# EAGLE library part CY7C65213 (library FlashPCB_ICs)
CY7C65213 - USB Bridge, USB to UART USB 2.0 UART Interface Technical Specifications: Standards: USB 2.0 Voltage - Supply (Vcc/Vdd): 1.71V ~ 5.5V Operating Temperature: -40°C ~ 85°C Component Search: CY7C65213 <[FLASHPCB URL]> Datasheet: CY7C65213 <https://rocelec.widen.net/view/pdf/lbnf5iposc/CYPR-S-A0004572493-1.pdf?t.download=true&u=5oefqw>
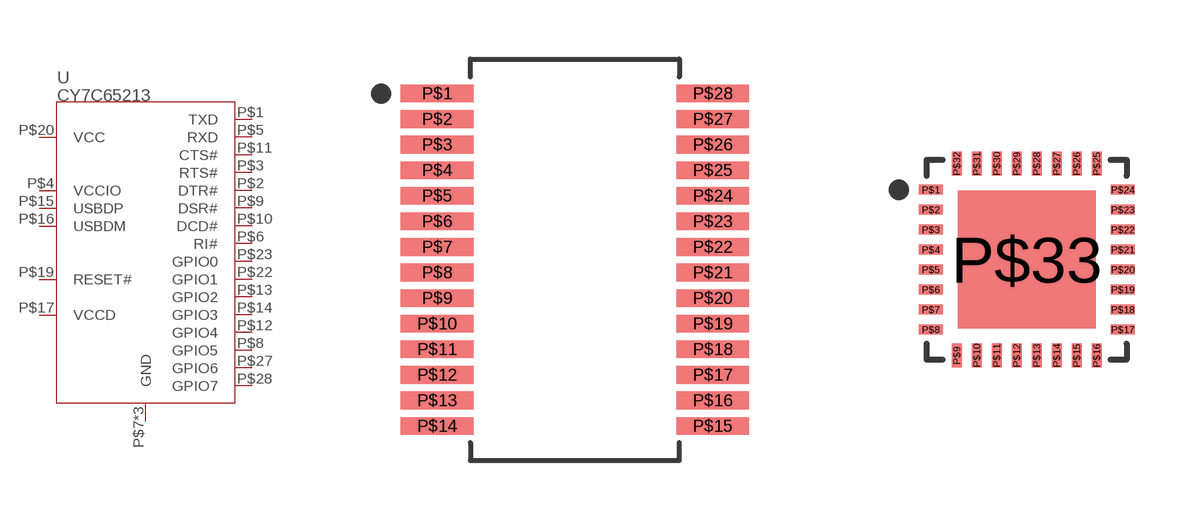
[diagram p35: symbol with the pads of 28-SSOP; footprints 28-SSOP, 32-QFN(5X5)-EXPOSED-PAD]

Designator prefix U

## CY7C6521328PVXI  [28-SSOP]
P$1  TXD
P$2  DTR#
P$3  RTS#
P$4  VCCIO
P$5  RXD
P$6  RI#
P$7  GND
P$8  GPIO5
P$9  DSR#
P$10  DCD#
P$11  CTS#
P$12  GPIO4
P$13  GPIO2
P$14  GPIO3
P$15  USBDP
P$16  USBDM
P$17  VCCD
P$18  GND
P$19  RESET#
P$20  VCC
P$21  GND
P$22  GPIO1
P$23  GPIO0
P$27  GPIO6
P$28  GPIO7

## CY7C6521332LTXI  [32-QFN(5X5)-EXPOSED-PAD]
P$1  VCCIO
P$2  RXD
P$3  RI#
P$4  GND
P$5  GPIO5
P$6  DSR#
P$7  DCD#
P$8  CTS#
P$9  GPIO4
P$10  GPIO2
P$11  GPIO3
P$12  GPIO6
P$13  GPIO7
P$14  USBDP
P$15  USBDM
P$16  VCCD
P$17  GND
P$18  RESET#
P$19  VCC
P$20  GND
P$21  GPIO1
P$22  GPIO0
P$24  GND
P$30  TXD
P$31  DTR#
P$32  RTS#

## Footprint 28-SSOP (pad centres in mm)
smd 1.85 x 0.45: P$1 -3.5,4.225; P$2 -3.5,3.575; P$3 -3.5,2.925; P$4 -3.5,2.275; P$5 -3.5,1.625; P$6 -3.5,0.975; P$7 -3.5,0.325; P$8 -3.5,-0.325; P$9 -3.5,-0.975; P$10 -3.5,-1.625; P$11 -3.5,-2.275; P$12 -3.5,-2.925; P$13 -3.5,-3.575; P$14 -3.5,-4.225; P$15 3.5,-4.225; P$16 3.5,-3.575; P$17 3.5,-2.925; P$18 3.5,-2.275; P$19 3.5,-1.625; P$20 3.5,-0.975; P$21 3.5,-0.325; P$22 3.5,0.325; P$23 3.5,0.975; P$24 3.5,1.625; P$25 3.5,2.275; P$26 3.5,2.925; P$27 3.5,3.575; P$28 3.5,4.225

## Footprint 32-QFN(5X5)-EXPOSED-PAD (pad centres in mm)
smd 0.6 x 0.25: P$1 -2.4,1.75; P$2 -2.4,1.25; P$3 -2.4,0.75; P$4 -2.4,0.25; P$5 -2.4,-0.25; P$6 -2.4,-0.75; P$7 -2.4,-1.25; P$8 -2.4,-1.75; P$17 2.4,-1.75; P$18 2.4,-1.25; P$19 2.4,-0.75; P$20 2.4,-0.25; P$21 2.4,0.25; P$22 2.4,0.75; P$23 2.4,1.25; P$24 2.4,1.75
smd 0.25 x 0.6: P$9 -1.75,-2.4; P$10 -1.25,-2.4; P$11 -0.75,-2.4; P$12 -0.25,-2.4; P$13 0.25,-2.4; P$14 0.75,-2.4; P$15 1.25,-2.4; P$16 1.75,-2.4; P$25 1.75,2.4; P$26 1.25,2.4; P$27 0.75,2.4; P$28 0.25,2.4; P$29 -0.25,2.4; P$30 -0.75,2.4; P$31 -1.25,2.4; P$32 -1.75,2.4
smd 3.45 x 3.45: P$33 0,0